# Altium integrated library National Semiconductor Audio.IntLib: 683 symbols (part 13 of 18)
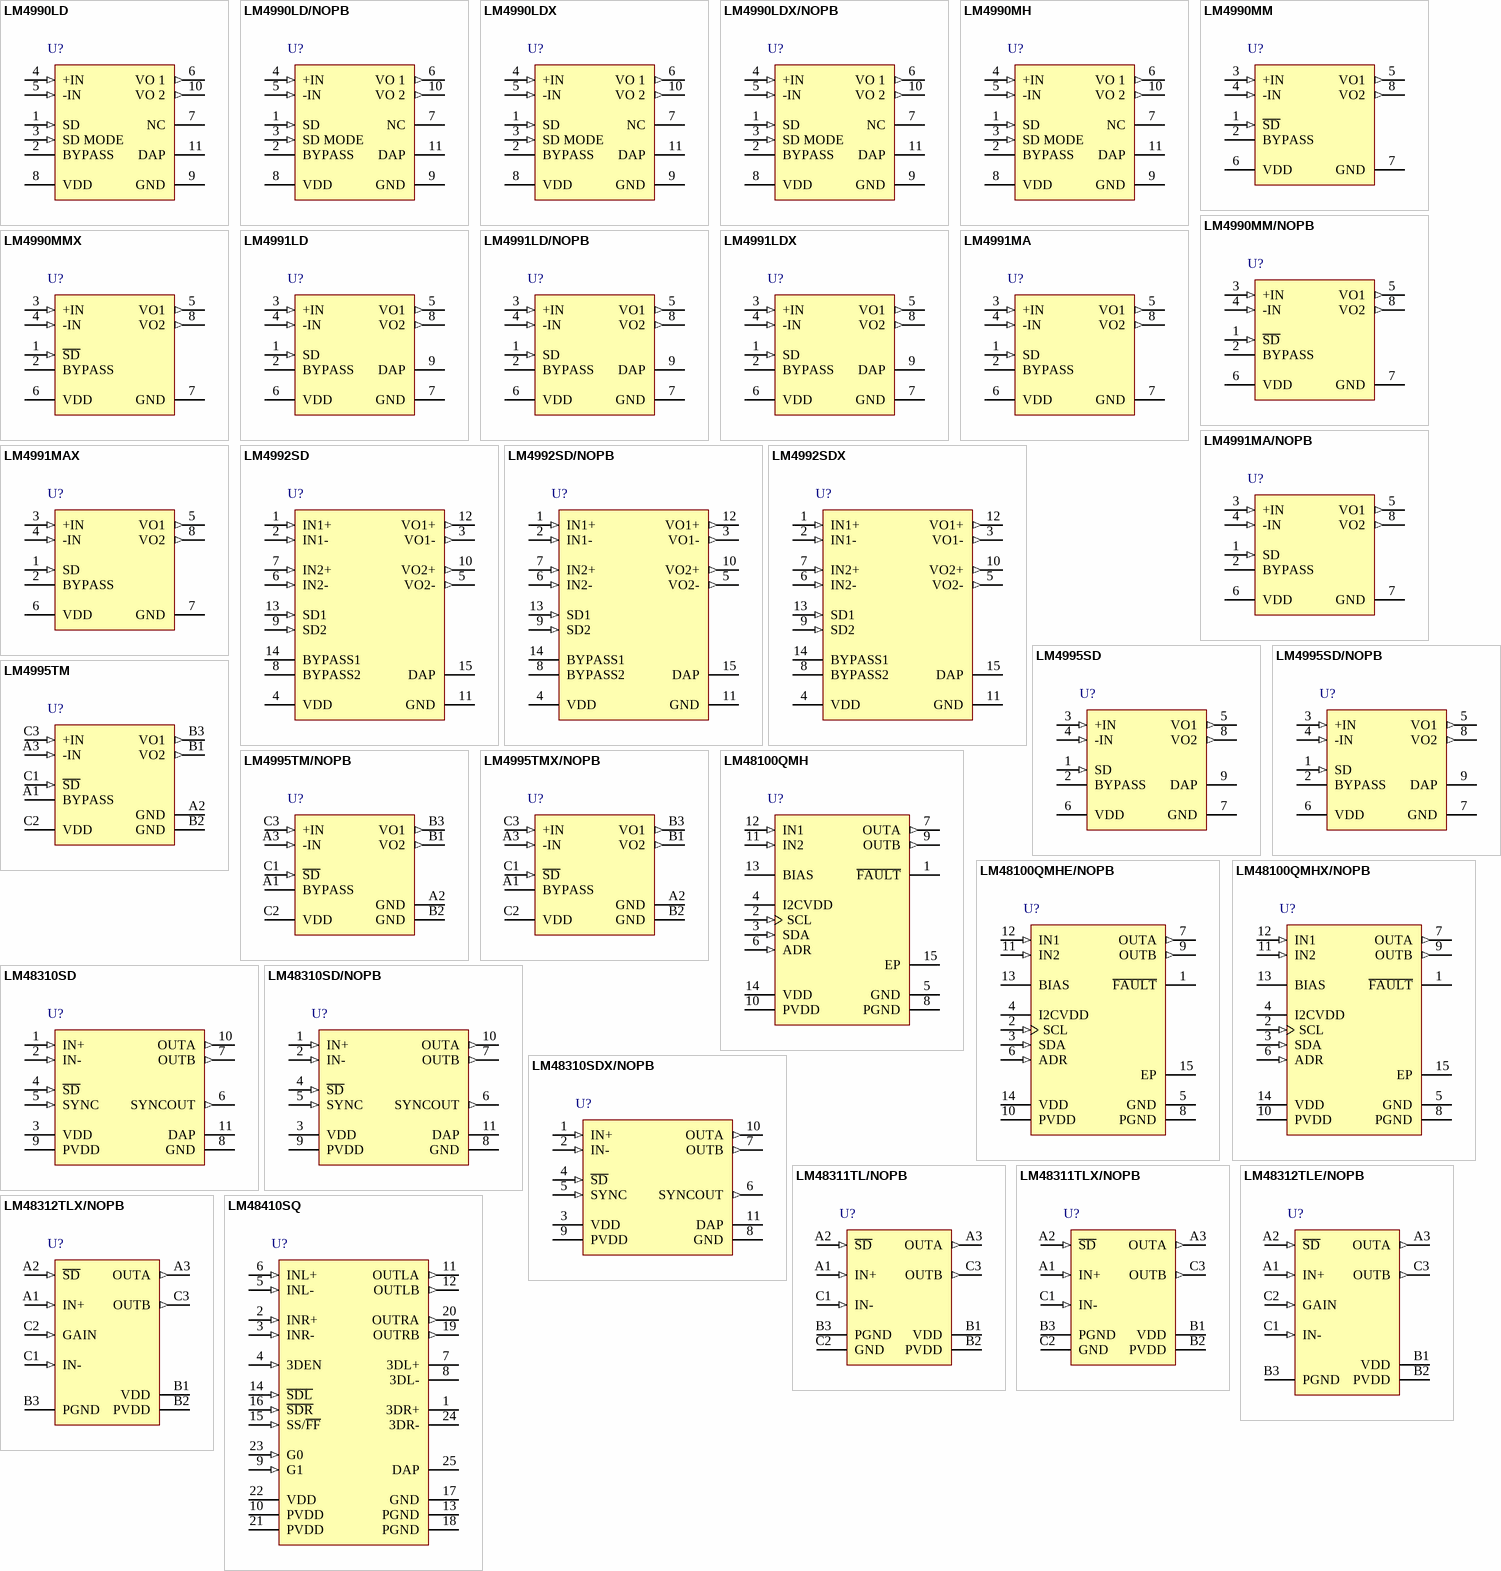
[diagram p38: symbols LM4990LD to LM48410SQ]

## LM48311TLX/NOPB
designator U?
Ultra-Low EMI, Filterless, 2.6W, Mono, Class D Audio Power Amplifier with E2S, 9-pin Micro SMD, Pb-Free; PartNumber: LM48311TLX/NOPB; Manufacturer: National Semiconductor; PackageTopMarking: XVG*I N1; PowerWise: Y; CompType: Audio IC; DatasheetVersion: Jun-2009; PackageVersion: revC, Jan-2004; PackageReference: TLA09BCA; PackageDescription: Thin Micro SMD, 9 Bump (Large), 0.5mm Pitch; RoHS: Y; PinCount: 9; High-Reliability: Y; Code_JEDEC: MO-211-DD; ComponentLink1Description: Manufacturer URL; ComponentLink1URL: http://www.national.com/; ComponentLink2Description: LM48311 Datasheet; ComponentLink2URL: http://www.national.com/ds/LM/LM48311.pdf; ComponentLink3Description: LM48311 Web Page; ComponentLink3URL: http://www.national.com/pf/LM/LM48311.html; ComponentLink4Description: TLA09BCA Package Page; ComponentLink4URL: http://www.national.com/packaging/folders/tla09bca.html
footprint TLA09BCA (Micro SMD, 9-Leads, Body 1.57x1.54mm, Pitch 0.5mm, NSC Recommended)
pins: A1 IN+ (in), A2 ~{SD} (in), A3 OUTA (out), B1 VDD (power), B2 PVDD (power), B3 PGND (power), C1 IN- (in), C2 GND (power), C3 OUTB (out)

## LM48312TLE/NOPB
designator U?
2.6W, Ultra-Low EMI, Filterless, Mono Class D Audio Power Amplifier with E2S, 9-pin Micro SMD, Pb-Free; PartNumber: LM48312TLE/NOPB; Manufacturer: National Semiconductor; PackageTopMarking: XVG*I N4; PowerWise: N; CompType: Audio IC; High-Reliability: Y; DatasheetVersion: Jan-2010; PackageVersion: revC, Jan-2004; PackageReference: TLA09BCA; PackageDescription: Thin Micro SMD, 9 Bump (Large), 0.5mm Pitch; RoHS: Y; PinCount: 9; Code_JEDEC: MO-211-DD; ComponentLink1Description: Manufacturer URL; ComponentLink1URL: http://www.national.com/; ComponentLink2Description: LM48312 Datasheet; ComponentLink2URL: http://www.national.com/ds/LM/LM48312.pdf; ComponentLink3Description: LM48312 Web Page; ComponentLink3URL: http://www.national.com/pf/LM/LM48312.html; ComponentLink4Description: TLA09BCA Package Page; ComponentLink4URL: http://www.national.com/packaging/folders/tla09bca.html
footprint TLA09BCA (Micro SMD, 9-Leads, Body 1.57x1.54mm, Pitch 0.5mm, NSC Recommended)
pins: A1 IN+ (in), A2 ~{SD} (in), A3 OUTA (out), B1 VDD (power), B2 PVDD (power), B3 PGND (power), C1 IN- (in), C2 GAIN (in), C3 OUTB (out)

## LM48312TLX/NOPB
designator U?
2.6W, Ultra-Low EMI, Filterless, Mono Class D Audio Power Amplifier with E2S, 9-pin Micro SMD, Pb-Free; PartNumber: LM48312TLX/NOPB; Manufacturer: National Semiconductor; PackageTopMarking: XVG*I N4; PowerWise: N; CompType: Audio IC; High-Reliability: Y; DatasheetVersion: Jan-2010; PackageVersion: revC, Jan-2004; PackageReference: TLA09BCA; PackageDescription: Thin Micro SMD, 9 Bump (Large), 0.5mm Pitch; RoHS: Y; PinCount: 9; Code_JEDEC: MO-211-DD; ComponentLink1Description: Manufacturer URL; ComponentLink1URL: http://www.national.com/; ComponentLink2Description: LM48312 Datasheet; ComponentLink2URL: http://www.national.com/ds/LM/LM48312.pdf; ComponentLink3Description: LM48312 Web Page; ComponentLink3URL: http://www.national.com/pf/LM/LM48312.html; ComponentLink4Description: TLA09BCA Package Page; ComponentLink4URL: http://www.national.com/packaging/folders/tla09bca.html
footprint TLA09BCA (Micro SMD, 9-Leads, Body 1.57x1.54mm, Pitch 0.5mm, NSC Recommended)
pins: A1 IN+ (in), A2 ~{SD} (in), A3 OUTA (out), B1 VDD (power), B2 PVDD (power), B3 PGND (power), C1 IN- (in), C2 GAIN (in), C3 OUTB (out)

## LM48410SQ
designator U?
Low EMI, Filterless, 2.3W Stereo Class D Audio Power Amplifier with National 3D Enhancement, 25-pin LLP; PartNumber: LM48410SQ; Manufacturer: National Semiconductor; PackageTopMarking: NS*UZXYTT*L48410; PowerWise: N; CompType: Audio IC; High-Reliability: Y; DatasheetVersion: Jul-2008; PackageVersion: revB, Aug-2003; PackageReference: SQA24A; PackageDescription: LLP, Plastic, Quad, 4 x 4 x 0.8mm Body, 24 Lead, 0.5mm Pitch, No Pullback; RoHS: Y; PinCount: 24; Code_JEDEC: MO-220-WGGD-6; ComponentLink1Description: Manufacturer URL; ComponentLink1URL: http://www.national.com/; ComponentLink2Description: LM48410 Datasheet; ComponentLink2URL: http://www.national.com/ds/LM/LM48410.pdf; ComponentLink3Description: LM48410 Web Page; ComponentLink3URL: http://www.national.com/pf/LM/LM48410.html; ComponentLink4Description: SQA24A Package Page; ComponentLink4URL: http://www.national.com/packaging/folders/sqa24a.html
footprint SQA24A (QFN, 24-Leads, Body 4x4mm, Pitch 0.5mm, Thermal Pad 2.7x2.7mm, NSC Recommended)
pins: 1 3DR+, 2 INR+ (in), 3 INR- (in), 4 3DEN (in), 5 INL- (in), 6 INL+ (in), 7 3DL+, 8 3DL-, 9 G1 (in), 10 PVDD (power), 11 OUTLA (out), 12 OUTLB (out), 13 PGND (power), 14 ~{SDL} (in), 15 SS/~{FF} (in), 16 ~{SDR} (in), 17 GND (power), 18 PGND (power), 19 OUTRB (out), 20 OUTRA (out), 21 PVDD (power), 22 VDD (power), 23 G0 (in), 24 3DR-, 25 DAP (power)

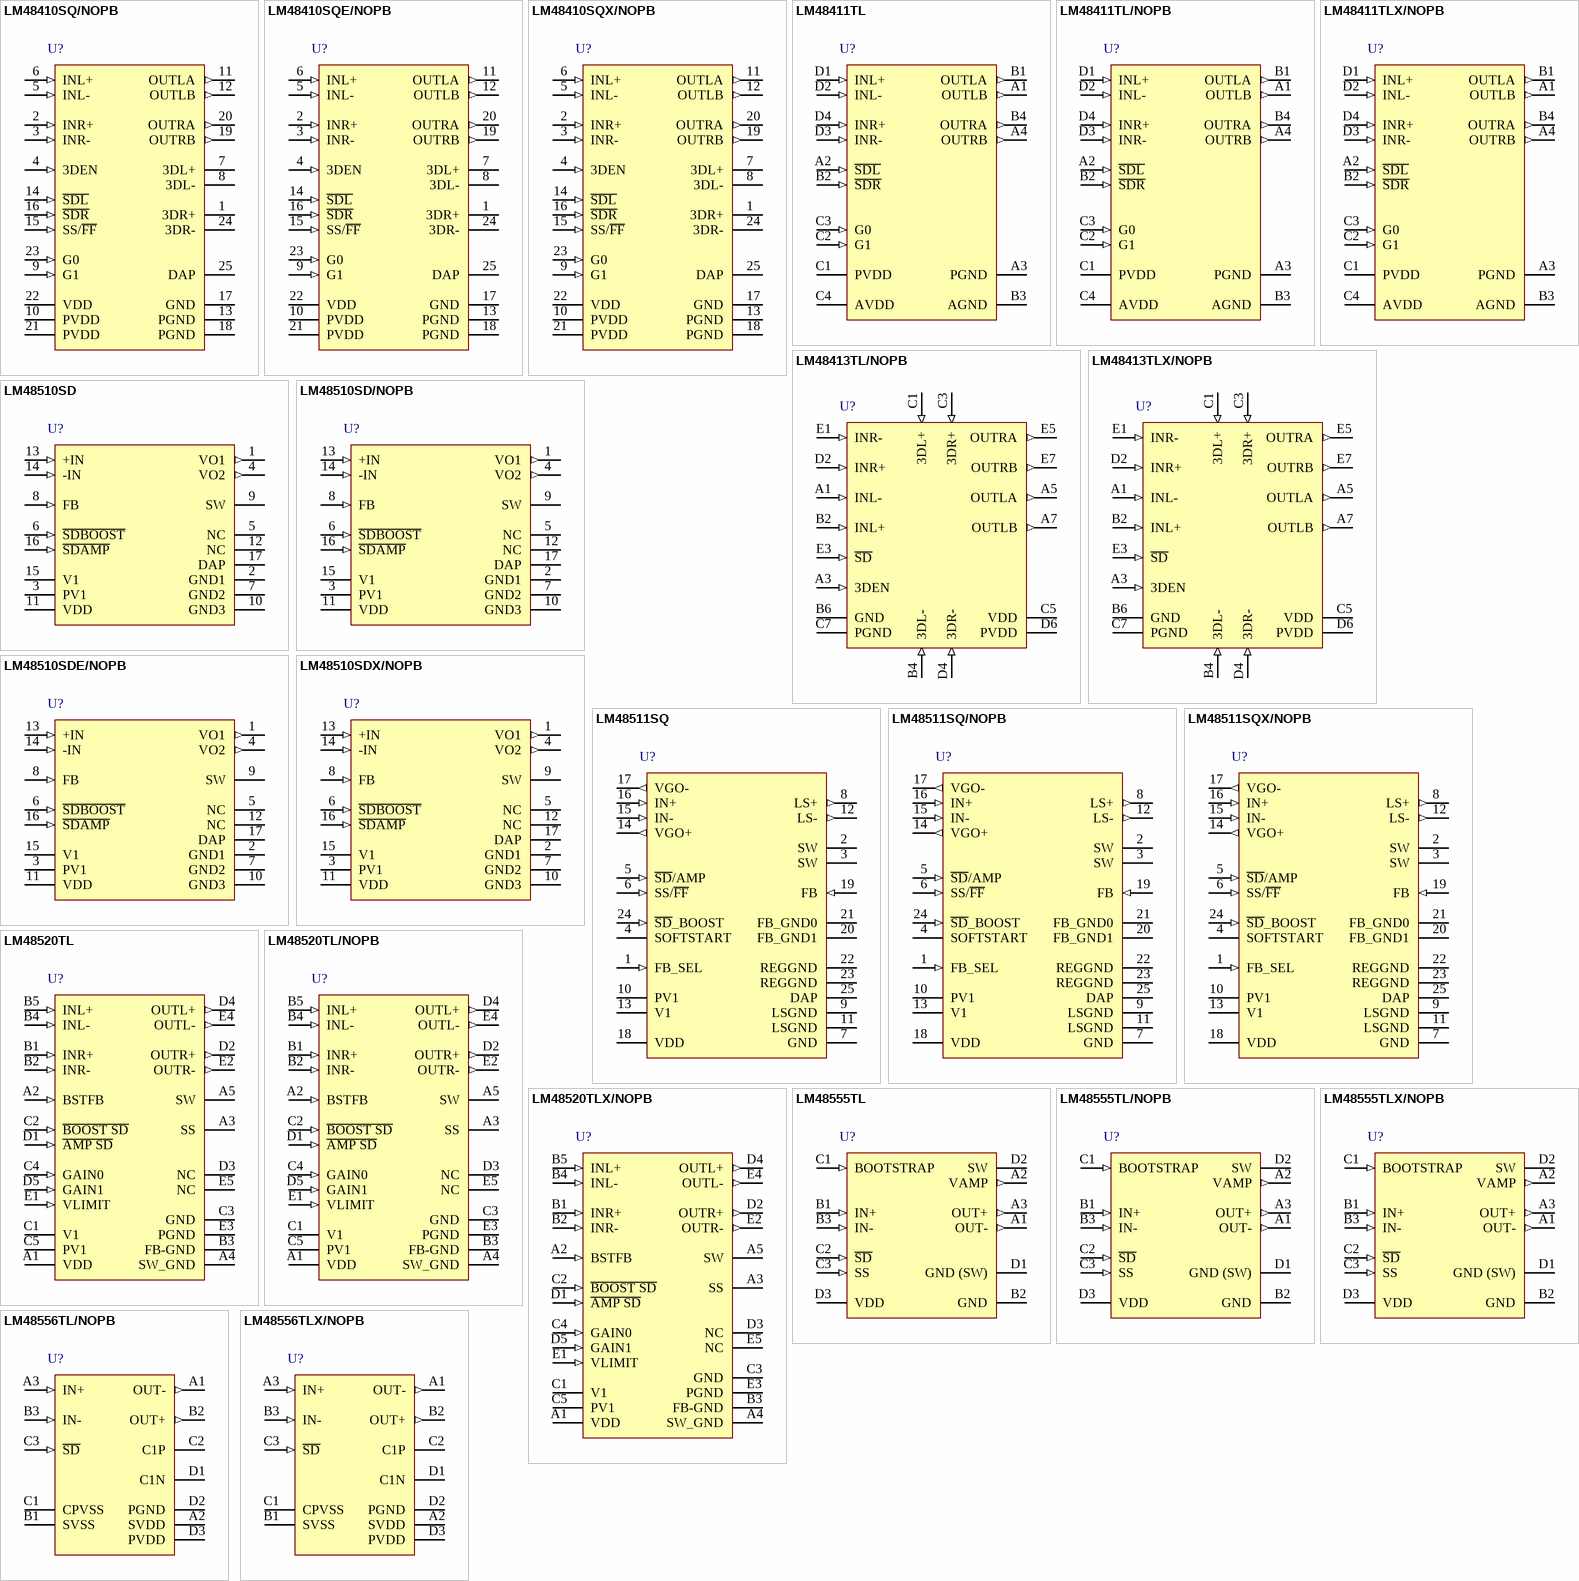
[diagram p18: symbols LM48410SQ/NOPB to LM48556TLX/NOPB]

## LM48410SQ/NOPB
designator U?
Low EMI, Filterless, 2.3W Stereo Class D Audio Power Amplifier with National 3D Enhancement, 24-pin LLP, Pb-Free; PartNumber: LM48410SQ/NOPB; Manufacturer: National Semiconductor; PackageTopMarking: NS*UZXYTT*L48410; PowerWise: N; CompType: Audio IC; High-Reliability: Y; DatasheetVersion: Jul-2008; PackageVersion: revB, Aug-2003; PackageReference: SQA24A; PackageDescription: LLP, Plastic, Quad, 4 x 4 x 0.8mm Body, 24 Lead, 0.5mm Pitch, No Pullback; RoHS: Y; PinCount: 24; Code_JEDEC: MO-220-WGGD-6; ComponentLink1Description: Manufacturer URL; ComponentLink1URL: http://www.national.com/; ComponentLink2Description: LM48410 Datasheet; ComponentLink2URL: http://www.national.com/ds/LM/LM48410.pdf; ComponentLink3Description: LM48410 Web Page; ComponentLink3URL: http://www.national.com/pf/LM/LM48410.html; ComponentLink4Description: SQA24A Package Page; ComponentLink4URL: http://www.national.com/packaging/folders/sqa24a.html
footprint SQA24A (QFN, 24-Leads, Body 4x4mm, Pitch 0.5mm, Thermal Pad 2.7x2.7mm, NSC Recommended)
pins: 1 3DR+, 2 INR+ (in), 3 INR- (in), 4 3DEN (in), 5 INL- (in), 6 INL+ (in), 7 3DL+, 8 3DL-, 9 G1 (in), 10 PVDD (power), 11 OUTLA (out), 12 OUTLB (out), 13 PGND (power), 14 ~{SDL} (in), 15 SS/~{FF} (in), 16 ~{SDR} (in), 17 GND (power), 18 PGND (power), 19 OUTRB (out), 20 OUTRA (out), 21 PVDD (power), 22 VDD (power), 23 G0 (in), 24 3DR-, 25 DAP (power)

## LM48410SQE/NOPB
designator U?
Low EMI, Filterless, 2.3W Stereo Class D Audio Power Amplifier with National 3D Enhancement, 24-pin LLP, Pb-Free; PartNumber: LM48410SQE/NOPB; Manufacturer: National Semiconductor; PackageTopMarking: NS*UZXYTT*L48410; PowerWise: N; CompType: Audio IC; High-Reliability: Y; DatasheetVersion: Jul-2008; PackageVersion: revB, Aug-2003; PackageReference: SQA24A; PackageDescription: LLP, Plastic, Quad, 4 x 4 x 0.8mm Body, 24 Lead, 0.5mm Pitch, No Pullback; RoHS: Y; PinCount: 24; Code_JEDEC: MO-220-WGGD-6; ComponentLink1Description: Manufacturer URL; ComponentLink1URL: http://www.national.com/; ComponentLink2Description: LM48410 Datasheet; ComponentLink2URL: http://www.national.com/ds/LM/LM48410.pdf; ComponentLink3Description: LM48410 Web Page; ComponentLink3URL: http://www.national.com/pf/LM/LM48410.html; ComponentLink4Description: SQA24A Package Page; ComponentLink4URL: http://www.national.com/packaging/folders/sqa24a.html
footprint SQA24A (QFN, 24-Leads, Body 4x4mm, Pitch 0.5mm, Thermal Pad 2.7x2.7mm, NSC Recommended)
pins: 1 3DR+, 2 INR+ (in), 3 INR- (in), 4 3DEN (in), 5 INL- (in), 6 INL+ (in), 7 3DL+, 8 3DL-, 9 G1 (in), 10 PVDD (power), 11 OUTLA (out), 12 OUTLB (out), 13 PGND (power), 14 ~{SDL} (in), 15 SS/~{FF} (in), 16 ~{SDR} (in), 17 GND (power), 18 PGND (power), 19 OUTRB (out), 20 OUTRA (out), 21 PVDD (power), 22 VDD (power), 23 G0 (in), 24 3DR-, 25 DAP (power)

## LM48410SQX/NOPB
designator U?
Low EMI, Filterless, 2.3W Stereo Class D Audio Power Amplifier with National 3D Enhancement, 24-pin LLP, Pb-Free; PartNumber: LM48410SQX/NOPB; Manufacturer: National Semiconductor; PackageTopMarking: NS*UZXYTT*L48410; PowerWise: N; CompType: Audio IC; High-Reliability: Y; DatasheetVersion: Jul-2008; PackageVersion: revB, Aug-2003; PackageReference: SQA24A; PackageDescription: LLP, Plastic, Quad, 4 x 4 x 0.8mm Body, 24 Lead, 0.5mm Pitch, No Pullback; RoHS: Y; PinCount: 24; Code_JEDEC: MO-220-WGGD-6; ComponentLink1Description: Manufacturer URL; ComponentLink1URL: http://www.national.com/; ComponentLink2Description: LM48410 Datasheet; ComponentLink2URL: http://www.national.com/ds/LM/LM48410.pdf; ComponentLink3Description: LM48410 Web Page; ComponentLink3URL: http://www.national.com/pf/LM/LM48410.html; ComponentLink4Description: SQA24A Package Page; ComponentLink4URL: http://www.national.com/packaging/folders/sqa24a.html
footprint SQA24A (QFN, 24-Leads, Body 4x4mm, Pitch 0.5mm, Thermal Pad 2.7x2.7mm, NSC Recommended)
pins: 1 3DR+, 2 INR+ (in), 3 INR- (in), 4 3DEN (in), 5 INL- (in), 6 INL+ (in), 7 3DL+, 8 3DL-, 9 G1 (in), 10 PVDD (power), 11 OUTLA (out), 12 OUTLB (out), 13 PGND (power), 14 ~{SDL} (in), 15 SS/~{FF} (in), 16 ~{SDR} (in), 17 GND (power), 18 PGND (power), 19 OUTRB (out), 20 OUTRA (out), 21 PVDD (power), 22 VDD (power), 23 G0 (in), 24 3DR-, 25 DAP (power)

## LM48411TL
designator U?
Ultra-Low EMI, Filterless, 2.5W, Stereo, Class D Audio Power Amplifier with E 2 S, 16-pin Micro SMD; PartNumber: LM48411TL; Manufacturer: National Semiconductor; PackageTopMarking: XYTT*I GJ2; PowerWise: Y; CompType: Audio IC; DatasheetVersion: Jul-2008; PackageVersion: revC, Jan-2004; PackageReference: TLA16ACA; PackageDescription: Thin Micro SMD, 16 Bump (Large), 0.5mm Pitch; RoHS: Y; PinCount: 16; High-Reliability: Y; Code_JEDEC: MO-211-DF; ComponentLink1Description: Manufacturer URL; ComponentLink1URL: http://www.national.com/; ComponentLink2Description: LM48411 Datasheet; ComponentLink2URL: http://www.national.com/ds/LM/LM48411.pdf; ComponentLink3Description: LM48411 Web Page; ComponentLink3URL: http://www.national.com/pf/LM/LM48411.html; ComponentLink4Description: TLA16ACA Package Page; ComponentLink4URL: http://www.national.com/packaging/folders/tla16aca.html
footprint TLA16ACA (Micro SMD, 16-Leads, Body 2.05x2.0mm, Pitch 0.5mm, NSC Recommended)
pins: A1 OUTLB (out), A2 ~{SDL} (in), A3 PGND (power), A4 OUTRB (out), B1 OUTLA (out), B2 ~{SDR} (in), B3 AGND (power), B4 OUTRA (out), C1 PVDD (power), C2 G1 (in), C3 G0 (in), C4 AVDD (power), D1 INL+ (in), D2 INL- (in), D3 INR- (in), D4 INR+ (in)

## LM48411TL/NOPB
designator U?
Ultra-Low EMI, Filterless, 2.5W, Stereo, Class D Audio Power Amplifier with E 2 S, 16-pin Micro SMD, Pb-Free; PartNumber: LM48411TL/NOPB; Manufacturer: National Semiconductor; PackageTopMarking: XYTT*I GJ2; PowerWise: Y; CompType: Audio IC; DatasheetVersion: Jul-2008; PackageVersion: revC, Jan-2004; PackageReference: TLA16ACA; PackageDescription: Thin Micro SMD, 16 Bump (Large), 0.5mm Pitch; RoHS: Y; PinCount: 16; High-Reliability: Y; Code_JEDEC: MO-211-DF; ComponentLink1Description: Manufacturer URL; ComponentLink1URL: http://www.national.com/; ComponentLink2Description: LM48411 Datasheet; ComponentLink2URL: http://www.national.com/ds/LM/LM48411.pdf; ComponentLink3Description: LM48411 Web Page; ComponentLink3URL: http://www.national.com/pf/LM/LM48411.html; ComponentLink4Description: TLA16ACA Package Page; ComponentLink4URL: http://www.national.com/packaging/folders/tla16aca.html
footprint TLA16ACA (Micro SMD, 16-Leads, Body 2.05x2.0mm, Pitch 0.5mm, NSC Recommended)
pins: A1 OUTLB (out), A2 ~{SDL} (in), A3 PGND (power), A4 OUTRB (out), B1 OUTLA (out), B2 ~{SDR} (in), B3 AGND (power), B4 OUTRA (out), C1 PVDD (power), C2 G1 (in), C3 G0 (in), C4 AVDD (power), D1 INL+ (in), D2 INL- (in), D3 INR- (in), D4 INR+ (in)

## LM48411TLX/NOPB
designator U?
Ultra-Low EMI, Filterless, 2.5W, Stereo, Class D Audio Power Amplifier with E 2 S, 16-pin Micro SMD, Pb-Free; PartNumber: LM48411TLX/NOPB; Manufacturer: National Semiconductor; PackageTopMarking: XYTT*I GJ2; PowerWise: Y; CompType: Audio IC; DatasheetVersion: Jul-2008; PackageVersion: revC, Jan-2004; PackageReference: TLA16ACA; PackageDescription: Thin Micro SMD, 16 Bump (Large), 0.5mm Pitch; RoHS: Y; PinCount: 16; High-Reliability: Y; Code_JEDEC: MO-211-DF; ComponentLink1Description: Manufacturer URL; ComponentLink1URL: http://www.national.com/; ComponentLink2Description: LM48411 Datasheet; ComponentLink2URL: http://www.national.com/ds/LM/LM48411.pdf; ComponentLink3Description: LM48411 Web Page; ComponentLink3URL: http://www.national.com/pf/LM/LM48411.html; ComponentLink4Description: TLA16ACA Package Page; ComponentLink4URL: http://www.national.com/packaging/folders/tla16aca.html
footprint TLA16ACA (Micro SMD, 16-Leads, Body 2.05x2.0mm, Pitch 0.5mm, NSC Recommended)
pins: A1 OUTLB (out), A2 ~{SDL} (in), A3 PGND (power), A4 OUTRB (out), B1 OUTLA (out), B2 ~{SDR} (in), B3 AGND (power), B4 OUTRA (out), C1 PVDD (power), C2 G1 (in), C3 G0 (in), C4 AVDD (power), D1 INL+ (in), D2 INL- (in), D3 INR- (in), D4 INR+ (in)

## LM48413TL/NOPB
designator U?
Ultra Low EMI, Filterless, 1.2W Stereo Class D Audio Power Amplifier with E2S and National 3D Enhancement, 18-pin Micro SMD, Pb-Free; PartNumber: LM48413TL/NOPB; Manufacturer: National Semiconductor; PackageTopMarking: XYTT*I GL2; PowerWise: N; CompType: Audio IC; High-Reliability: Y; DatasheetVersion: Jan-2009; PackageVersion: revD, Jan-2005; PackageReference: TLA18CBA; PackageDescription: Thin Micro SMD, 18 Bump (Large), 0.5mm Pitch; RoHS: Y; PinCount: 18; ComponentLink1Description: Manufacturer URL; ComponentLink1URL: http://www.national.com/; ComponentLink2Description: LM48413 Datasheet; ComponentLink2URL: http://www.national.com/ds/LM/LM48413.pdf; ComponentLink3Description: LM48413 Web Page; ComponentLink3URL: http://www.national.com/pf/LM/LM48413.html; ComponentLink4Description: TLA18CBA Package Page; ComponentLink4URL: http://www.national.com/packaging/folders/tla18cba.html
footprint TLA18CBA (Micro SMD, 18-Leads, Body 2.25x2.05mm, Pitch 0.5mm, NSC Recommended)
pins: A1 INL- (in), A3 3DEN (in), A5 OUTLA (out), A7 OUTLB (out), B2 INL+ (in), B4 3DL- (in), B6 GND (power), C1 3DL+ (in), C3 3DR+ (in), C5 VDD (power), C7 PGND (power), D2 INR+ (in), D4 3DR- (in), D6 PVDD (power), E1 INR- (in), E3 ~{SD} (in), E5 OUTRA (out), E7 OUTRB (out)

## LM48413TLX/NOPB
designator U?
Ultra Low EMI, Filterless, 1.2W Stereo Class D Audio Power Amplifier with E2S and National 3D Enhancement, 18-pin Micro SMD, Pb-Free; PartNumber: LM48413TLX/NOPB; Manufacturer: National Semiconductor; PackageTopMarking: XYTT*I GL2; PowerWise: N; CompType: Audio IC; High-Reliability: Y; DatasheetVersion: Jan-2009; PackageVersion: revD, Jan-2005; PackageReference: TLA18CBA; PackageDescription: Thin Micro SMD, 18 Bump (Large), 0.5mm Pitch; RoHS: Y; PinCount: 18; ComponentLink1Description: Manufacturer URL; ComponentLink1URL: http://www.national.com/; ComponentLink2Description: LM48413 Datasheet; ComponentLink2URL: http://www.national.com/ds/LM/LM48413.pdf; ComponentLink3Description: LM48413 Web Page; ComponentLink3URL: http://www.national.com/pf/LM/LM48413.html; ComponentLink4Description: TLA18CBA Package Page; ComponentLink4URL: http://www.national.com/packaging/folders/tla18cba.html
footprint TLA18CBA (Micro SMD, 18-Leads, Body 2.25x2.05mm, Pitch 0.5mm, NSC Recommended)
pins: A1 INL- (in), A3 3DEN (in), A5 OUTLA (out), A7 OUTLB (out), B2 INL+ (in), B4 3DL- (in), B6 GND (power), C1 3DL+ (in), C3 3DR+ (in), C5 VDD (power), C7 PGND (power), D2 INR+ (in), D4 3DR- (in), D6 PVDD (power), E1 INR- (in), E3 ~{SD} (in), E5 OUTRA (out), E7 OUTRB (out)

## LM48510SD
designator U?
Boosted Class D Audio Power Amplifier, 17-pin LLP; PartNumber: LM48510SD; Manufacturer: National Semiconductor; PackageTopMarking: NS*UZXYTT*L48510; PowerWise: N; CompType: Audio IC; High-Reliability: Y; DatasheetVersion: Oct-2007; PackageVersion: revA, Dec-2004; PackageReference: SDA16B; PackageDescription: LLP, Plastic, Dual, 5 x 4 x 0.8mm, 16 Lead, 0.5mm Pitch, No Pullback; RoHS: N; PinCount: 16; ComponentLink1Description: Manufacturer URL; ComponentLink1URL: http://www.national.com/; ComponentLink2Description: LM48510 Datasheet; ComponentLink2URL: http://www.national.com/ds/LM/LM48510.pdf; ComponentLink3Description: LM48510 Web Page; ComponentLink3URL: http://www.national.com/pf/LM/LM48510.html; ComponentLink4Description: SDA16B Package Page; ComponentLink4URL: http://www.national.com/packaging/folders/sda16b.html
footprint SDA16B (SON, 16-Leads, Body 5x4mm, Pitch 0.5mm, NSC Recommended)
pins: 1 VO1 (out), 2 GND1 (power), 3 PV1 (power), 4 VO2 (out), 5 NC, 6 ~{SDBOOST} (in), 7 GND2 (power), 8 FB (in), 9 SW, 10 GND3 (power), 11 VDD (power), 12 NC, 13 +IN (in), 14 -IN (in), 15 V1 (power), 16 ~{SDAMP} (in), 17 DAP (power)

## LM48510SD/NOPB
designator U?
Boosted Class D Audio Power Amplifier, 16-pin LLP, Pb-Free; PartNumber: LM48510SD/NOPB; Manufacturer: National Semiconductor; PackageTopMarking: NS*UZXYTT*L48510; PowerWise: N; CompType: Audio IC; High-Reliability: Y; DatasheetVersion: Oct-2007; PackageVersion: revA, Dec-2004; PackageReference: SDA16B; PackageDescription: LLP, Plastic, Dual, 5 x 4 x 0.8mm, 16 Lead, 0.5mm Pitch, No Pullback; RoHS: Y; PinCount: 16; ComponentLink1Description: Manufacturer URL; ComponentLink1URL: http://www.national.com/; ComponentLink2Description: LM48510 Datasheet; ComponentLink2URL: http://www.national.com/ds/LM/LM48510.pdf; ComponentLink3Description: LM48510 Web Page; ComponentLink3URL: http://www.national.com/pf/LM/LM48510.html; ComponentLink4Description: SDA16B Package Page; ComponentLink4URL: http://www.national.com/packaging/folders/sda16b.html
footprint SDA16B (SON, 16-Leads, Body 5x4mm, Pitch 0.5mm, NSC Recommended)
pins: 1 VO1 (out), 2 GND1 (power), 3 PV1 (power), 4 VO2 (out), 5 NC, 6 ~{SDBOOST} (in), 7 GND2 (power), 8 FB (in), 9 SW, 10 GND3 (power), 11 VDD (power), 12 NC, 13 +IN (in), 14 -IN (in), 15 V1 (power), 16 ~{SDAMP} (in), 17 DAP (power)

## LM48510SDE/NOPB
designator U?
Boosted Class D Audio Power Amplifier, 16-pin LLP, Pb-Free; PartNumber: LM48510SDE/NOPB; Manufacturer: National Semiconductor; PackageTopMarking: NS*UZXYTT*L48510; PowerWise: N; CompType: Audio IC; High-Reliability: Y; DatasheetVersion: Oct-2007; PackageVersion: revA, Dec-2004; PackageReference: SDA16B; PackageDescription: LLP, Plastic, Dual, 5 x 4 x 0.8mm, 16 Lead, 0.5mm Pitch, No Pullback; RoHS: Y; PinCount: 16; ComponentLink1Description: Manufacturer URL; ComponentLink1URL: http://www.national.com/; ComponentLink2Description: LM48510 Datasheet; ComponentLink2URL: http://www.national.com/ds/LM/LM48510.pdf; ComponentLink3Description: LM48510 Web Page; ComponentLink3URL: http://www.national.com/pf/LM/LM48510.html; ComponentLink4Description: SDA16B Package Page; ComponentLink4URL: http://www.national.com/packaging/folders/sda16b.html
footprint SDA16B (SON, 16-Leads, Body 5x4mm, Pitch 0.5mm, NSC Recommended)
pins: 1 VO1 (out), 2 GND1 (power), 3 PV1 (power), 4 VO2 (out), 5 NC, 6 ~{SDBOOST} (in), 7 GND2 (power), 8 FB (in), 9 SW, 10 GND3 (power), 11 VDD (power), 12 NC, 13 +IN (in), 14 -IN (in), 15 V1 (power), 16 ~{SDAMP} (in), 17 DAP (power)

## LM48510SDX/NOPB
designator U?
Boosted Class D Audio Power Amplifier, 16-pin LLP, Pb-Free; PartNumber: LM48510SDX/NOPB; Manufacturer: National Semiconductor; PackageTopMarking: NS*UZXYTT*L48510; PowerWise: Y; CompType: Audio IC; DatasheetVersion: Oct-2007; PackageVersion: revA, Dec-2004; PackageReference: SDA16B; PackageDescription: LLP, Plastic, Dual, 5 x 4 x 0.8mm, 16 Lead, 0.5mm Pitch, No Pullback; RoHS: Y; PinCount: 16; High-Reliability: Y; ComponentLink1Description: Manufacturer URL; ComponentLink1URL: http://www.national.com/; ComponentLink2Description: LM48510 Datasheet; ComponentLink2URL: http://www.national.com/ds/LM/LM48510.pdf; ComponentLink3Description: LM48510 Web Page; ComponentLink3URL: http://www.national.com/pf/LM/LM48510.html; ComponentLink4Description: SDA16B Package Page; ComponentLink4URL: http://www.national.com/packaging/folders/sda16b.html
footprint SDA16B (SON, 16-Leads, Body 5x4mm, Pitch 0.5mm, NSC Recommended)
pins: 1 VO1 (out), 2 GND1 (power), 3 PV1 (power), 4 VO2 (out), 5 NC, 6 ~{SDBOOST} (in), 7 GND2 (power), 8 FB (in), 9 SW, 10 GND3 (power), 11 VDD (power), 12 NC, 13 +IN (in), 14 -IN (in), 15 V1 (power), 16 ~{SDAMP} (in), 17 DAP (power)

## LM48511SQ
designator U?
3W, Ultra-Low EMI, Filterless, Mono, Class D Audio Power Amplifier with Spread Spectrum, 25-pin LLP; PartNumber: LM48511SQ; Manufacturer: National Semiconductor; PackageTopMarking: NS*UZXYTT*48511SQ; PowerWise: N; CompType: Audio IC; High-Reliability: Y; DatasheetVersion: Feb-2008; PackageVersion: revA, Oct-2003; PackageReference: SQA24B; PackageDescription: LLP, Plastic, Quad, 5 x 4 x 0.8mm Body, 24 Lead, 0.5mm Pitch, No Pullback; RoHS: Y; PinCount: 24; Code_JEDEC: MO-220-WGHD-1; ComponentLink1Description: Manufacturer URL; ComponentLink1URL: http://www.national.com/; ComponentLink2Description: LM48511 Datasheet; ComponentLink2URL: http://www.national.com/ds/LM/LM48511.pdf; ComponentLink3Description: LM48511 Web Page; ComponentLink3URL: http://www.national.com/pf/LM/LM48511.html; ComponentLink4Description: SQA24B Package Page; ComponentLink4URL: http://www.national.com/packaging/folders/sqa24b.html
footprint SQA24B (QFN, 24-Leads, Body 5x4mm, Pitch 0.5mm, NSC Recommended)
pins: 1 FB_SEL (in), 2 SW (oc), 3 SW (oc), 4 SOFTSTART, 5 ~{SD}/AMP (in), 6 SS/~{FF} (in), 7 GND (power), 8 LS+ (out), 9 LSGND (power), 10 PV1 (power), 11 LSGND (power), 12 LS- (out), 13 V1 (power), 14 VGO+ (out), 15 IN- (in), 16 IN+ (in), 17 VGO- (out), 18 VDD (power), 19 FB (in), 20 FB_GND1 (power), 21 FB_GND0 (power), 22 REGGND (power), 23 REGGND (power), 24 ~{SD}_BOOST (in), 25 DAP (power)

## LM48511SQ/NOPB
designator U?
3W, Ultra-Low EMI, Filterless, Mono, Class D Audio Power Amplifier with Spread Spectrum, 24-pin LLP, Pb-Free; PartNumber: LM48511SQ/NOPB; Manufacturer: National Semiconductor; PackageTopMarking: NS*UZXYTT*48511SQ; PowerWise: N; CompType: Audio IC; High-Reliability: Y; DatasheetVersion: Feb-2008; PackageVersion: revA, Oct-2003; PackageReference: SQA24B; PackageDescription: LLP, Plastic, Quad, 5 x 4 x 0.8mm Body, 24 Lead, 0.5mm Pitch, No Pullback; RoHS: Y; PinCount: 24; Code_JEDEC: MO-220-WGHD-1; ComponentLink1Description: Manufacturer URL; ComponentLink1URL: http://www.national.com/; ComponentLink2Description: LM48511 Datasheet; ComponentLink2URL: http://www.national.com/ds/LM/LM48511.pdf; ComponentLink3Description: LM48511 Web Page; ComponentLink3URL: http://www.national.com/pf/LM/LM48511.html; ComponentLink4Description: SQA24B Package Page; ComponentLink4URL: http://www.national.com/packaging/folders/sqa24b.html
footprint SQA24B (QFN, 24-Leads, Body 5x4mm, Pitch 0.5mm, NSC Recommended)
pins: 1 FB_SEL (in), 2 SW (oc), 3 SW (oc), 4 SOFTSTART, 5 ~{SD}/AMP (in), 6 SS/~{FF} (in), 7 GND (power), 8 LS+ (out), 9 LSGND (power), 10 PV1 (power), 11 LSGND (power), 12 LS- (out), 13 V1 (power), 14 VGO+ (out), 15 IN- (in), 16 IN+ (in), 17 VGO- (out), 18 VDD (power), 19 FB (in), 20 FB_GND1 (power), 21 FB_GND0 (power), 22 REGGND (power), 23 REGGND (power), 24 ~{SD}_BOOST (in), 25 DAP (power)

## LM48511SQX/NOPB
designator U?
3W, Ultra-Low EMI, Filterless, Mono, Class D Audio Power Amplifier with Spread Spectrum, 24-pin LLP, Pb-Free; PartNumber: LM48511SQX/NOPB; Manufacturer: National Semiconductor; PackageTopMarking: NS*UZXYTT*48511SQ; PowerWise: N; CompType: Audio IC; High-Reliability: Y; DatasheetVersion: Feb-2008; PackageVersion: revA, Oct-2003; PackageReference: SQA24B; PackageDescription: LLP, Plastic, Quad, 5 x 4 x 0.8mm Body, 24 Lead, 0.5mm Pitch, No Pullback; RoHS: Y; PinCount: 24; Code_JEDEC: MO-220-WGHD-1; ComponentLink1Description: Manufacturer URL; ComponentLink1URL: http://www.national.com/; ComponentLink2Description: LM48511 Datasheet; ComponentLink2URL: http://www.national.com/ds/LM/LM48511.pdf; ComponentLink3Description: LM48511 Web Page; ComponentLink3URL: http://www.national.com/pf/LM/LM48511.html; ComponentLink4Description: SQA24B Package Page; ComponentLink4URL: http://www.national.com/packaging/folders/sqa24b.html
footprint SQA24B (QFN, 24-Leads, Body 5x4mm, Pitch 0.5mm, NSC Recommended)
pins: 1 FB_SEL (in), 2 SW (oc), 3 SW (oc), 4 SOFTSTART, 5 ~{SD}/AMP (in), 6 SS/~{FF} (in), 7 GND (power), 8 LS+ (out), 9 LSGND (power), 10 PV1 (power), 11 LSGND (power), 12 LS- (out), 13 V1 (power), 14 VGO+ (out), 15 IN- (in), 16 IN+ (in), 17 VGO- (out), 18 VDD (power), 19 FB (in), 20 FB_GND1 (power), 21 FB_GND0 (power), 22 REGGND (power), 23 REGGND (power), 24 ~{SD}_BOOST (in), 25 DAP (power)

## LM48520TL
designator U?
Boosted Stereo Class D Audio Power Amplifier with Output Speaker Protection and Spread Spectrum, 25-pin Micro SMD; PartNumber: LM48520TL; Manufacturer: National Semiconductor; PackageTopMarking: XYTT*I GI5; PowerWise: N; CompType: Audio IC; High-Reliability: Y; DatasheetVersion: Mar-2008; PackageVersion: revD, Dec-2003; PackageReference: TLA25AAA; PackageDescription: Thin Micro SMD, 25 Bump (Large), 0.5mm Pitch; RoHS: Y; PinCount: 25; Code_JEDEC: MO-211-DH; ComponentLink1Description: Manufacturer URL; ComponentLink1URL: http://www.national.com/; ComponentLink2Description: LM48520 Datasheet; ComponentLink2URL: http://www.national.com/ds/LM/LM48520.pdf; ComponentLink3Description: LM48520 Web Page; ComponentLink3URL: http://www.national.com/pf/LM/LM48520.html; ComponentLink4Description: TLA25AAA Package Page; ComponentLink4URL: http://www.national.com/packaging/folders/tla25aaa.html
footprint TLA25AAA (Micro SMD, 25-Leads, Body 2.49x2.49mm, Pitch 0.5mm, NSC Recommended)
pins: A1 VDD (power), A2 BSTFB (in), A3 SS, A4 SW_GND (power), A5 SW, B1 INR+ (in), B2 INR- (in), B3 FB-GND (power), B4 INL- (in), B5 INL+ (in), C1 V1 (power), C2 ~{BOOST SD} (in), C3 GND (power), C4 GAIN0 (in), C5 PV1 (power), D1 ~{AMP SD} (in), D2 OUTR+ (out), D3 NC, D4 OUTL+ (out), D5 GAIN1 (in), E1 VLIMIT (in), E2 OUTR- (out), E3 PGND (power), E4 OUTL- (out), E5 NC

## LM48520TL/NOPB
designator U?
Boosted Stereo Class D Audio Power Amplifier with Output Speaker Protection and Spread Spectrum, 25-pin Micro SMD, Pb-Free; PartNumber: LM48520TL/NOPB; Manufacturer: National Semiconductor; PackageTopMarking: XYTT*I GI5; PowerWise: N; CompType: Audio IC; High-Reliability: Y; DatasheetVersion: Mar-2008; PackageVersion: revD, Dec-2003; PackageReference: TLA25AAA; PackageDescription: Thin Micro SMD, 25 Bump (Large), 0.5mm Pitch; RoHS: Y; PinCount: 25; Code_JEDEC: MO-211-DH; ComponentLink1Description: Manufacturer URL; ComponentLink1URL: http://www.national.com/; ComponentLink2Description: LM48520 Datasheet; ComponentLink2URL: http://www.national.com/ds/LM/LM48520.pdf; ComponentLink3Description: LM48520 Web Page; ComponentLink3URL: http://www.national.com/pf/LM/LM48520.html; ComponentLink4Description: TLA25AAA Package Page; ComponentLink4URL: http://www.national.com/packaging/folders/tla25aaa.html
footprint TLA25AAA (Micro SMD, 25-Leads, Body 2.49x2.49mm, Pitch 0.5mm, NSC Recommended)
pins: A1 VDD (power), A2 BSTFB (in), A3 SS, A4 SW_GND (power), A5 SW, B1 INR+ (in), B2 INR- (in), B3 FB-GND (power), B4 INL- (in), B5 INL+ (in), C1 V1 (power), C2 ~{BOOST SD} (in), C3 GND (power), C4 GAIN0 (in), C5 PV1 (power), D1 ~{AMP SD} (in), D2 OUTR+ (out), D3 NC, D4 OUTL+ (out), D5 GAIN1 (in), E1 VLIMIT (in), E2 OUTR- (out), E3 PGND (power), E4 OUTL- (out), E5 NC

## LM48520TLX/NOPB
designator U?
Boosted Stereo Class D Audio Power Amplifier with Output Speaker Protection and Spread Spectrum, 25-pin Micro SMD, Pb-Free; PartNumber: LM48520TLX/NOPB; Manufacturer: National Semiconductor; PackageTopMarking: XYTT*I GI5; PowerWise: N; CompType: Audio IC; High-Reliability: Y; DatasheetVersion: Mar-2008; PackageVersion: revD, Dec-2003; PackageReference: TLA25AAA; PackageDescription: Thin Micro SMD, 25 Bump (Large), 0.5mm Pitch; RoHS: Y; PinCount: 25; Code_JEDEC: MO-211-DH; ComponentLink1Description: Manufacturer URL; ComponentLink1URL: http://www.national.com/; ComponentLink2Description: LM48520 Datasheet; ComponentLink2URL: http://www.national.com/ds/LM/LM48520.pdf; ComponentLink3Description: LM48520 Web Page; ComponentLink3URL: http://www.national.com/pf/LM/LM48520.html; ComponentLink4Description: TLA25AAA Package Page; ComponentLink4URL: http://www.national.com/packaging/folders/tla25aaa.html
footprint TLA25AAA (Micro SMD, 25-Leads, Body 2.49x2.49mm, Pitch 0.5mm, NSC Recommended)
pins: A1 VDD (power), A2 BSTFB (in), A3 SS, A4 SW_GND (power), A5 SW, B1 INR+ (in), B2 INR- (in), B3 FB-GND (power), B4 INL- (in), B5 INL+ (in), C1 V1 (power), C2 ~{BOOST SD} (in), C3 GND (power), C4 GAIN0 (in), C5 PV1 (power), D1 ~{AMP SD} (in), D2 OUTR+ (out), D3 NC, D4 OUTL+ (out), D5 GAIN1 (in), E1 VLIMIT (in), E2 OUTR- (out), E3 PGND (power), E4 OUTL- (out), E5 NC

## LM48555TL
designator U?
Ceramic Speaker Driver, 12-pin Micro SMD; PartNumber: LM48555TL; Manufacturer: National Semiconductor; PackageTopMarking: XVG*I I4; PowerWise: N; CompType: Audio IC; High-Reliability: Y; DatasheetVersion: Mar-2007; PackageVersion: revC, Jan-2004; PackageReference: TLA12Z1A; PackageDescription: Thin Micro SMD, 12 Bump (Large), Area Array, 0.5mm Pitch; RoHS: Y; PinCount: 12; Code_JEDEC: MO-211-DE; ComponentLink1Description: Manufacturer URL; ComponentLink1URL: http://www.national.com/; ComponentLink2Description: LM48555 Datasheet; ComponentLink2URL: http://www.national.com/ds/LM/LM48555.pdf; ComponentLink3Description: LM48555 Web Page; ComponentLink3URL: http://www.national.com/pf/LM/LM48555.html; ComponentLink4Description: TLA12Z1A Package Page; ComponentLink4URL: http://www.national.com/packaging/folders/tla12z1a.html
footprint TLA12Z1A (Micro SMD, 12-Leads, Body 1.97x1.47mm, Pitch 0.5mm, NSC Recommended)
pins: A1 OUT- (out), A2 VAMP (out), A3 OUT+ (out), B1 IN+ (in), B2 GND (power), B3 IN- (in), C1 BOOTSTRAP (in), C2 ~{SD} (in), C3 SS (in), D1 GND (SW) (power), D2 SW (oc), D3 VDD (power)

## LM48555TL/NOPB
designator U?
Ceramic Speaker Driver, 12-pin Micro SMD, Pb-Free; PartNumber: LM48555TL/NOPB; Manufacturer: National Semiconductor; PackageTopMarking: XVG*I I4; PowerWise: N; CompType: Audio IC; High-Reliability: Y; DatasheetVersion: Mar-2007; PackageVersion: revC, Jan-2004; PackageReference: TLA12Z1A; PackageDescription: Thin Micro SMD, 12 Bump (Large), Area Array, 0.5mm Pitch; RoHS: Y; PinCount: 12; Code_JEDEC: MO-211-DE; ComponentLink1Description: Manufacturer URL; ComponentLink1URL: http://www.national.com/; ComponentLink2Description: LM48555 Datasheet; ComponentLink2URL: http://www.national.com/ds/LM/LM48555.pdf; ComponentLink3Description: LM48555 Web Page; ComponentLink3URL: http://www.national.com/pf/LM/LM48555.html; ComponentLink4Description: TLA12Z1A Package Page; ComponentLink4URL: http://www.national.com/packaging/folders/tla12z1a.html
footprint TLA12Z1A (Micro SMD, 12-Leads, Body 1.97x1.47mm, Pitch 0.5mm, NSC Recommended)
pins: A1 OUT- (out), A2 VAMP (out), A3 OUT+ (out), B1 IN+ (in), B2 GND (power), B3 IN- (in), C1 BOOTSTRAP (in), C2 ~{SD} (in), C3 SS (in), D1 GND (SW) (power), D2 SW (oc), D3 VDD (power)

## LM48555TLX/NOPB
designator U?
Ceramic Speaker Driver, 12-pin Micro SMD, Pb-Free; PartNumber: LM48555TLX/NOPB; Manufacturer: National Semiconductor; PackageTopMarking: XVG*I I4; PowerWise: N; CompType: Audio IC; High-Reliability: Y; DatasheetVersion: Mar-2007; PackageVersion: revC, Jan-2004; PackageReference: TLA12Z1A; PackageDescription: Thin Micro SMD, 12 Bump (Large), Area Array, 0.5mm Pitch; RoHS: Y; PinCount: 12; Code_JEDEC: MO-211-DE; ComponentLink1Description: Manufacturer URL; ComponentLink1URL: http://www.national.com/; ComponentLink2Description: LM48555 Datasheet; ComponentLink2URL: http://www.national.com/ds/LM/LM48555.pdf; ComponentLink3Description: LM48555 Web Page; ComponentLink3URL: http://www.national.com/pf/LM/LM48555.html; ComponentLink4Description: TLA12Z1A Package Page; ComponentLink4URL: http://www.national.com/packaging/folders/tla12z1a.html
footprint TLA12Z1A (Micro SMD, 12-Leads, Body 1.97x1.47mm, Pitch 0.5mm, NSC Recommended)
pins: A1 OUT- (out), A2 VAMP (out), A3 OUT+ (out), B1 IN+ (in), B2 GND (power), B3 IN- (in), C1 BOOTSTRAP (in), C2 ~{SD} (in), C3 SS (in), D1 GND (SW) (power), D2 SW (oc), D3 VDD (power)

## LM48556TL/NOPB
designator U?
Fully Differential, Mono, Ceramic Speaker Driver, 12-pin Micro SMD, Pb-Free; PartNumber: LM48556TL/NOPB; Manufacturer: National Semiconductor; PackageTopMarking: XYTT*I GK4; PowerWise: N; CompType: Audio IC; High-Reliability: Y; DatasheetVersion: Dec-2008; PackageVersion: revC, Jan-2004; PackageReference: TLA121AA; PackageDescription: Thin Micro SMD, 12 Bump (Large), Area Array, 0.5mm Pitch; RoHS: Y; PinCount: 12; Code_JEDEC: MO-211-DE; ComponentLink1Description: Manufacturer URL; ComponentLink1URL: http://www.national.com/; ComponentLink2Description: LM48556 Datasheet; ComponentLink2URL: http://www.national.com/ds/LM/LM48556.pdf; ComponentLink3Description: LM48556 Web Page; ComponentLink3URL: http://www.national.com/pf/LM/LM48556.html; ComponentLink4Description: TLA121AA Package Page; ComponentLink4URL: http://www.national.com/packaging/folders/tla121aa.html
footprint TLA121AA (Micro SMD, 12-Leads, Body 2.0x1.49mm, Pitch 0.5mm, NSC Recommended)
pins: A1 OUT- (out), A2 SVDD (power), A3 IN+ (in), B1 SVSS (power), B2 OUT+ (out), B3 IN- (in), C1 CPVSS (power), C2 C1P, C3 ~{SD} (in), D1 C1N, D2 PGND (power), D3 PVDD (power)

## LM48556TLX/NOPB
designator U?
Fully Differential, Mono, Ceramic Speaker Driver, 12-pin Micro SMD, Pb-Free; PartNumber: LM48556TLX/NOPB; Manufacturer: National Semiconductor; PackageTopMarking: XYTT*I GK4; PowerWise: N; CompType: Audio IC; High-Reliability: Y; DatasheetVersion: Dec-2008; PackageVersion: revC, Jan-2004; PackageReference: TLA121AA; PackageDescription: Thin Micro SMD, 12 Bump (Large), Area Array, 0.5mm Pitch; RoHS: Y; PinCount: 12; Code_JEDEC: MO-211-DE; ComponentLink1Description: Manufacturer URL; ComponentLink1URL: http://www.national.com/; ComponentLink2Description: LM48556 Datasheet; ComponentLink2URL: http://www.national.com/ds/LM/LM48556.pdf; ComponentLink3Description: LM48556 Web Page; ComponentLink3URL: http://www.national.com/pf/LM/LM48556.html; ComponentLink4Description: TLA121AA Package Page; ComponentLink4URL: http://www.national.com/packaging/folders/tla121aa.html
footprint TLA121AA (Micro SMD, 12-Leads, Body 2.0x1.49mm, Pitch 0.5mm, NSC Recommended)
pins: A1 OUT- (out), A2 SVDD (power), A3 IN+ (in), B1 SVSS (power), B2 OUT+ (out), B3 IN- (in), C1 CPVSS (power), C2 C1P, C3 ~{SD} (in), D1 C1N, D2 PGND (power), D3 PVDD (power)

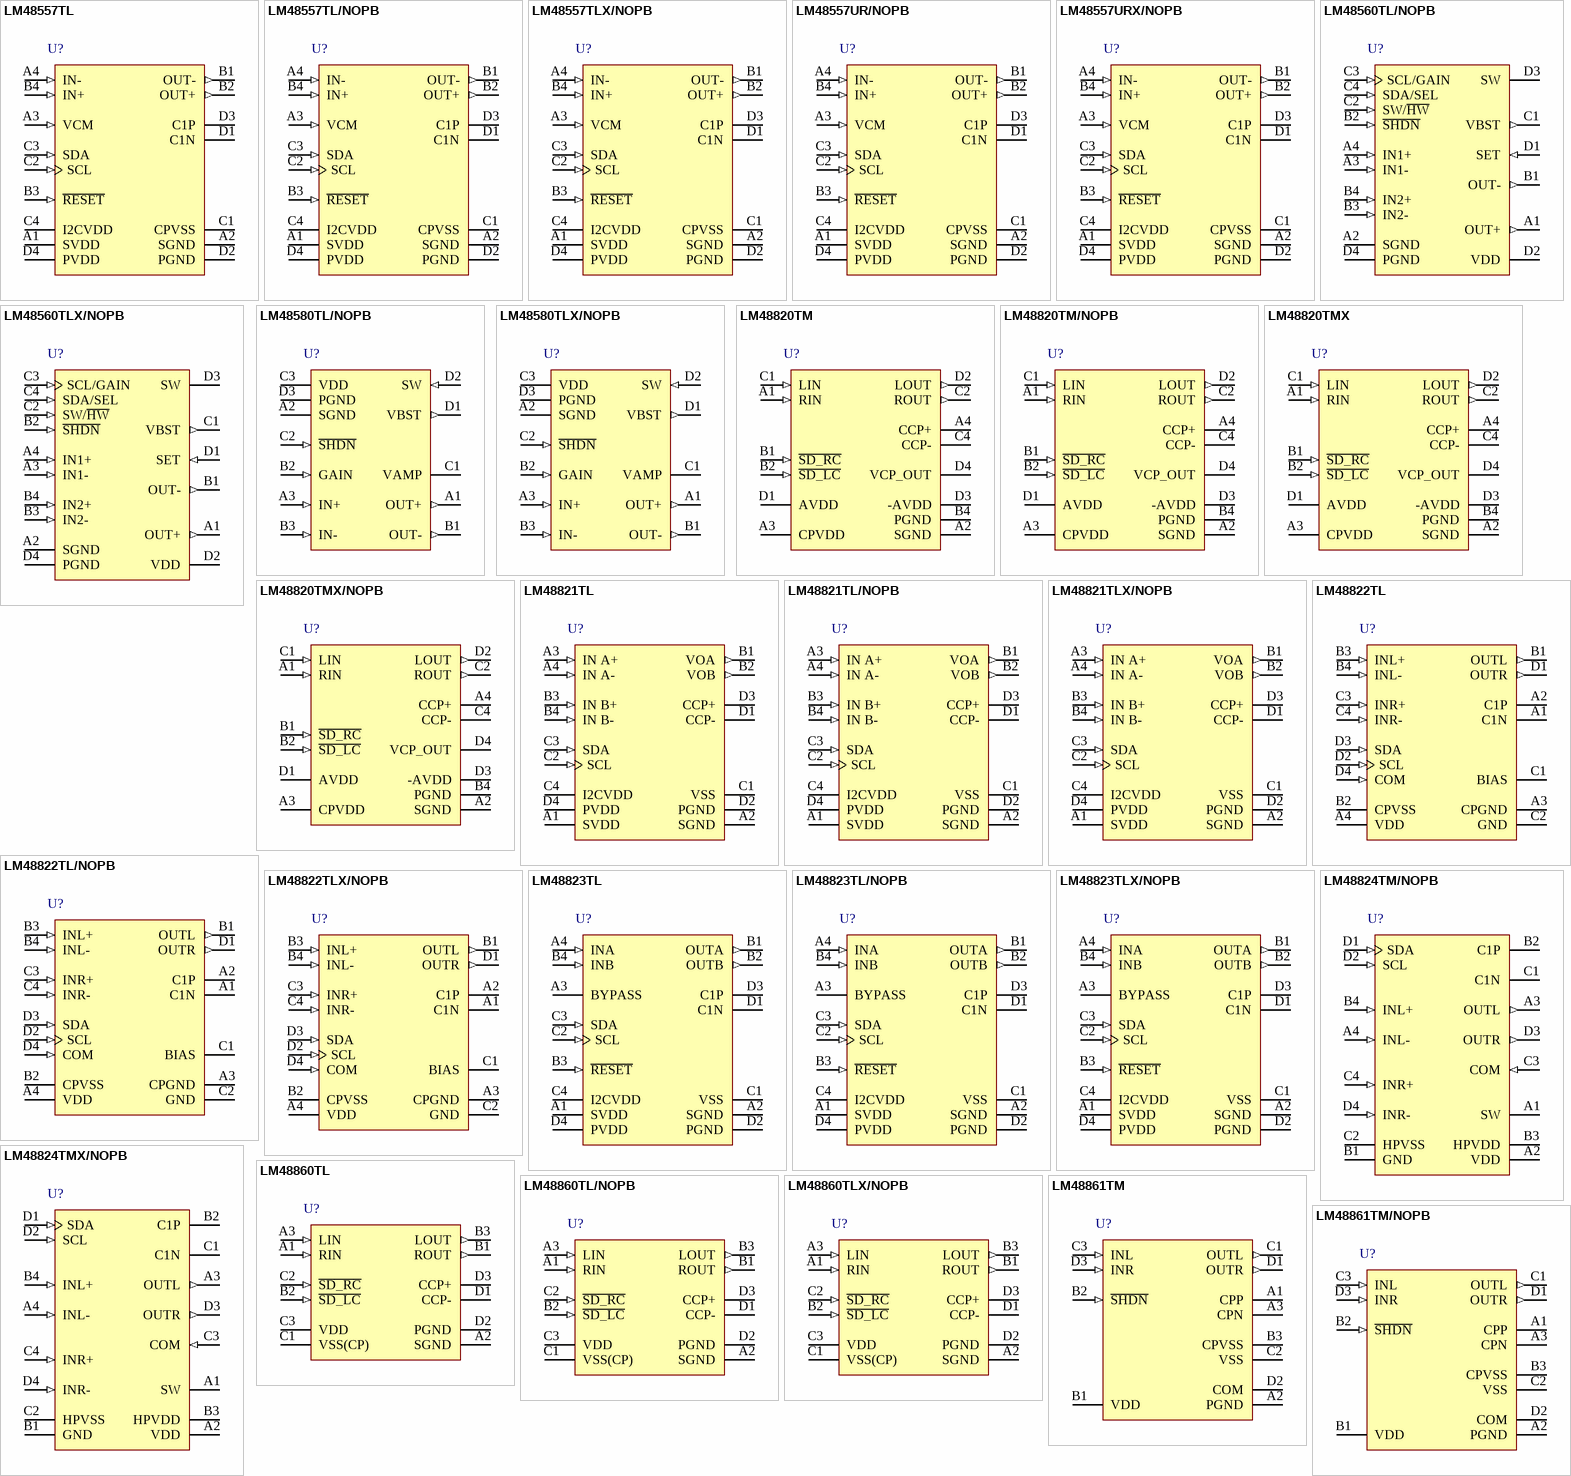
[diagram p19: symbols LM48557TL to LM48861TM/NOPB]

## LM48557TL
designator U?
Mono, Bridge-Tied Load, Ceramic Speaker Driver with I2C Volume Control and Reset, 16-pin Micro SMD; PartNumber: LM48557TL; Manufacturer: National Semiconductor; PackageTopMarking: XYTT*I GM2; PowerWise: N; CompType: Audio IC; High-Reliability: Y; DatasheetVersion: Aug-2009; PackageVersion: revC, Jan-2004; PackageReference: TLA1611A; PackageDescription: Thin Micro SMD, 16 Bump (Large), 0.5mm Pitch; RoHS: Y; PinCount: 16; Code_JEDEC: MO-211-DF; ComponentLink1Description: Manufacturer URL; ComponentLink1URL: http://www.national.com/; ComponentLink2Description: LM48557 Datasheet; ComponentLink2URL: http://www.national.com/ds/LM/LM48557.pdf; ComponentLink3Description: LM48557 Web Page; ComponentLink3URL: http://www.national.com/pf/LM/LM48557.html; ComponentLink4Description: TLA1611A Package Page; ComponentLink4URL: http://www.national.com/packaging/folders/tla1611a.html
footprint TLA1611A (Micro SMD, 16-Leads, Body 1.97x1.97mm, Pitch 0.5mm, NSC Recommended)
pins: A1 SVDD (power), A2 SGND (power), A3 VCM (in), A4 IN- (in), B1 OUT- (out), B2 OUT+ (out), B3 ~{RESET} (in), B4 IN+ (in), C1 CPVSS (power), C2 SCL (in), C3 SDA (in), C4 I2CVDD (power), D1 C1N, D2 PGND (power), D3 C1P, D4 PVDD (power)

## LM48557TL/NOPB
designator U?
Mono, Bridge-Tied Load, Ceramic Speaker Driver with I2C Volume Control and Reset, 16-pin Micro SMD, Pb-Free; PartNumber: LM48557TL/NOPB; Manufacturer: National Semiconductor; PackageTopMarking: XYTT*I GM2; PowerWise: N; CompType: Audio IC; High-Reliability: Y; DatasheetVersion: Aug-2009; PackageVersion: revC, Jan-2004; PackageReference: TLA1611A; PackageDescription: Thin Micro SMD, 16 Bump (Large), 0.5mm Pitch; RoHS: Y; PinCount: 16; Code_JEDEC: MO-211-DF; ComponentLink1Description: Manufacturer URL; ComponentLink1URL: http://www.national.com/; ComponentLink2Description: LM48557 Datasheet; ComponentLink2URL: http://www.national.com/ds/LM/LM48557.pdf; ComponentLink3Description: LM48557 Web Page; ComponentLink3URL: http://www.national.com/pf/LM/LM48557.html; ComponentLink4Description: TLA1611A Package Page; ComponentLink4URL: http://www.national.com/packaging/folders/tla1611a.html
footprint TLA1611A (Micro SMD, 16-Leads, Body 1.97x1.97mm, Pitch 0.5mm, NSC Recommended)
pins: A1 SVDD (power), A2 SGND (power), A3 VCM (in), A4 IN- (in), B1 OUT- (out), B2 OUT+ (out), B3 ~{RESET} (in), B4 IN+ (in), C1 CPVSS (power), C2 SCL (in), C3 SDA (in), C4 I2CVDD (power), D1 C1N, D2 PGND (power), D3 C1P, D4 PVDD (power)

## LM48557TLX/NOPB
designator U?
Mono, Bridge-Tied Load, Ceramic Speaker Driver with I2C Volume Control and Reset, 16-pin Micro SMD, Pb-Free; PartNumber: LM48557TLX/NOPB; Manufacturer: National Semiconductor; PackageTopMarking: XYTT*I GM2; PowerWise: N; CompType: Audio IC; High-Reliability: Y; DatasheetVersion: Aug-2009; PackageVersion: revC, Jan-2004; PackageReference: TLA1611A; PackageDescription: Thin Micro SMD, 16 Bump (Large), 0.5mm Pitch; RoHS: Y; PinCount: 16; Code_JEDEC: MO-211-DF; ComponentLink1Description: Manufacturer URL; ComponentLink1URL: http://www.national.com/; ComponentLink2Description: LM48557 Datasheet; ComponentLink2URL: http://www.national.com/ds/LM/LM48557.pdf; ComponentLink3Description: LM48557 Web Page; ComponentLink3URL: http://www.national.com/pf/LM/LM48557.html; ComponentLink4Description: TLA1611A Package Page; ComponentLink4URL: http://www.national.com/packaging/folders/tla1611a.html
footprint TLA1611A (Micro SMD, 16-Leads, Body 1.97x1.97mm, Pitch 0.5mm, NSC Recommended)
pins: A1 SVDD (power), A2 SGND (power), A3 VCM (in), A4 IN- (in), B1 OUT- (out), B2 OUT+ (out), B3 ~{RESET} (in), B4 IN+ (in), C1 CPVSS (power), C2 SCL (in), C3 SDA (in), C4 I2CVDD (power), D1 C1N, D2 PGND (power), D3 C1P, D4 PVDD (power)

## LM48557UR/NOPB
designator U?
Mono, Bridge-Tied Load, Ceramic Speaker Driver with I2C Volume Control and Reset, 16 pin MICRO SMD; PartNumber: LM48557UR/NOPB; Manufacturer: National Semiconductor; PackageTopMarking: XYTT*I GN5; PowerWise: N; CompType: Audio IC; High-Reliability: Y; DatasheetVersion: Aug-2009; PackageVersion: revC, Jan-2004; PackageReference: TLA1611A; PackageDescription: Thin Micro SMD, 16 Bump (Large), 0.5mm Pitch; RoHS: Y; PinCount: 16; Code_JEDEC: MO-211-DF; ComponentLink1Description: Manufacturer URL; ComponentLink1URL: http://www.national.com/; ComponentLink2Description: LM48557 Datasheet; ComponentLink2URL: http://www.national.com/ds/LM/LM48557.pdf; ComponentLink3Description: LM48557 Web Page; ComponentLink3URL: http://www.national.com/pf/LM/LM48557.html; ComponentLink4Description: URA1611A Package Page; ComponentLink4URL: http://www.national.com/packaging/folders/ura1611a.html
footprint TLA1611A (Micro SMD, 16-Leads, Body 1.97x1.97mm, Pitch 0.5mm, NSC Recommended)
pins: A1 SVDD (power), A2 SGND (power), A3 VCM (in), A4 IN- (in), B1 OUT- (out), B2 OUT+ (out), B3 ~{RESET} (in), B4 IN+ (in), C1 CPVSS (power), C2 SCL (in), C3 SDA (in), C4 I2CVDD (power), D1 C1N, D2 PGND (power), D3 C1P, D4 PVDD (power)

## LM48557URX/NOPB
designator U?
Mono, Bridge-Tied Load, Ceramic Speaker Driver with I2C Volume Control and Reset, 16 pin MICRO SMD; PartNumber: LM48557URX/NOPB; Manufacturer: National Semiconductor; PackageTopMarking: XYTT*I GN5; PowerWise: N; CompType: Audio IC; High-Reliability: Y; DatasheetVersion: Aug-2009; PackageVersion: revC, Jan-2004; PackageReference: TLA1611A; PackageDescription: Thin Micro SMD, 16 Bump (Large), 0.5mm Pitch; RoHS: Y; PinCount: 16; Code_JEDEC: MO-211-DF; ComponentLink1Description: Manufacturer URL; ComponentLink1URL: http://www.national.com/; ComponentLink2Description: LM48557 Datasheet; ComponentLink2URL: http://www.national.com/ds/LM/LM48557.pdf; ComponentLink3Description: LM48557 Web Page; ComponentLink3URL: http://www.national.com/pf/LM/LM48557.html; ComponentLink4Description: URA1611A Package Page; ComponentLink4URL: http://www.national.com/packaging/folders/ura1611a.html
footprint TLA1611A (Micro SMD, 16-Leads, Body 1.97x1.97mm, Pitch 0.5mm, NSC Recommended)
pins: A1 SVDD (power), A2 SGND (power), A3 VCM (in), A4 IN- (in), B1 OUT- (out), B2 OUT+ (out), B3 ~{RESET} (in), B4 IN+ (in), C1 CPVSS (power), C2 SCL (in), C3 SDA (in), C4 I2CVDD (power), D1 C1N, D2 PGND (power), D3 C1P, D4 PVDD (power)

## LM48560TL/NOPB
designator U?
High Voltage Class H Ceramic Speaker Driver with Automatic Level Control, 16-pin Micro SMD, 250 Reel; PartNumber: LM48560TL/NOPB; Manufacturer: National Semiconductor; PackageTopMarking: XYTT*I GO5; PowerWise: N; CompType: Audio IC; High-Reliability: Y; DatasheetVersion: Sep-2011; PackageVersion: revC, Jan-2004; PackageReference: TLA1611A; PackageDescription: Thin Micro SMD, 16 Bump (Large), 0.5mm Pitch; RoHS: Y; PinCount: 16; Code_JEDEC: MO-211-DF; ComponentLink1Description: Manufacturer URL; ComponentLink1URL: http://www.national.com/; ComponentLink2Description: LM48560 Datasheet; ComponentLink2URL: http://www.national.com/ds/LM/LM48560.pdf; ComponentLink3Description: LM48560 Web Page; ComponentLink3URL: http://www.national.com/pf/LM/LM48560.html; ComponentLink4Description: TLA1611A Package Page; ComponentLink4URL: http://www.national.com/packaging/folders/tla1611a.html
footprint TLA1611A (Micro SMD, 16-Leads, Body 1.97x1.97mm, Pitch 0.5mm, NSC Recommended)
pins: A1 OUT+ (out), A2 SGND (power), A3 IN1- (in), A4 IN1+ (in), B1 OUT- (out), B2 ~{SHDN} (in), B3 IN2- (in), B4 IN2+ (in), C1 VBST (out), C2 SW/~{HW} (in), C3 SCL/GAIN (in), C4 SDA/SEL (in), D1 SET (in), D2 VDD (power), D3 SW, D4 PGND (power)

## LM48560TLX/NOPB
designator U?
High Voltage Class H Ceramic Speaker Driver with Automatic Level Control, 16-pin Micro SMD, 3000 Reel; PartNumber: LM48560TLX/NOPB; Manufacturer: National Semiconductor; PackageTopMarking: XYTT*I GO5; PowerWise: N; CompType: Audio IC; High-Reliability: Y; DatasheetVersion: Sep-2011; PackageVersion: revC, Jan-2004; PackageReference: TLA1611A; PackageDescription: Thin Micro SMD, 16 Bump (Large), 0.5mm Pitch; RoHS: Y; PinCount: 16; Code_JEDEC: MO-211-DF; ComponentLink1Description: Manufacturer URL; ComponentLink1URL: http://www.national.com/; ComponentLink2Description: LM48560 Datasheet; ComponentLink2URL: http://www.national.com/ds/LM/LM48560.pdf; ComponentLink3Description: LM48560 Web Page; ComponentLink3URL: http://www.national.com/pf/LM/LM48560.html; ComponentLink4Description: TLA1611A Package Page; ComponentLink4URL: http://www.national.com/packaging/folders/tla1611a.html
footprint TLA1611A (Micro SMD, 16-Leads, Body 1.97x1.97mm, Pitch 0.5mm, NSC Recommended)
pins: A1 OUT+ (out), A2 SGND (power), A3 IN1- (in), A4 IN1+ (in), B1 OUT- (out), B2 ~{SHDN} (in), B3 IN2- (in), B4 IN2+ (in), C1 VBST (out), C2 SW/~{HW} (in), C3 SCL/GAIN (in), C4 SDA/SEL (in), D1 SET (in), D2 VDD (power), D3 SW, D4 PGND (power)

## LM48580TL/NOPB
designator U?
High Efficiency Class H, High Voltage, Haptic Piezo Actuator / Ceramic Speaker Driver, 12 pin Micro SMD, Pb-Free; PartNumber: LM48580TL/NOPB; Manufacturer: National Semiconductor; PackageTopMarking: XYTT*I GM3; PowerWise: Y; CompType: Audio IC; DatasheetVersion: Feb-2010; PackageVersion: revC, Jan-2004; PackageReference: TLA12Z1A; PackageDescription: Thin Micro SMD, 12 Bump (Large), Area Array, 0.5mm Pitch; RoHS: Y; PinCount: 12; High-Reliability: Y; Code_JEDEC: MO-211-DE; ComponentLink1Description: Manufacturer URL; ComponentLink1URL: http://www.national.com/; ComponentLink2Description: LM48580 Datasheet; ComponentLink2URL: http://www.national.com/ds/LM/LM48580.pdf; ComponentLink3Description: LM48580 Web Page; ComponentLink3URL: http://www.national.com/pf/LM/LM48580.html; ComponentLink4Description: TLA12Z1A Package Page; ComponentLink4URL: http://www.national.com/packaging/folders/tla12z1a.html
footprint TLA12Z1A (Micro SMD, 12-Leads, Body 1.97x1.47mm, Pitch 0.5mm, NSC Recommended)
pins: A1 OUT+ (out), A2 SGND (power), A3 IN+ (in), B1 OUT- (out), B2 GAIN (in), B3 IN- (in), C1 VAMP (power), C2 ~{SHDN} (in), C3 VDD (power), D1 VBST (out), D2 SW (in), D3 PGND (power)

## LM48580TLX/NOPB
designator U?
High Efficiency Class H, High Voltage, Haptic Piezo Actuator / Ceramic Speaker Driver, 12 pin Micro SMD, Pb-Free; PartNumber: LM48580TLX/NOPB; Manufacturer: National Semiconductor; PackageTopMarking: XYTT*I GM3; PowerWise: Y; CompType: Audio IC; DatasheetVersion: Feb-2010; PackageVersion: revC, Jan-2004; PackageReference: TLA12Z1A; PackageDescription: Thin Micro SMD, 12 Bump (Large), Area Array, 0.5mm Pitch; RoHS: Y; PinCount: 12; High-Reliability: Y; Code_JEDEC: MO-211-DE; ComponentLink1Description: Manufacturer URL; ComponentLink1URL: http://www.national.com/; ComponentLink2Description: LM48580 Datasheet; ComponentLink2URL: http://www.national.com/ds/LM/LM48580.pdf; ComponentLink3Description: LM48580 Web Page; ComponentLink3URL: http://www.national.com/pf/LM/LM48580.html; ComponentLink4Description: TLA12Z1A Package Page; ComponentLink4URL: http://www.national.com/packaging/folders/tla12z1a.html
footprint TLA12Z1A (Micro SMD, 12-Leads, Body 1.97x1.47mm, Pitch 0.5mm, NSC Recommended)
pins: A1 OUT+ (out), A2 SGND (power), A3 IN+ (in), B1 OUT- (out), B2 GAIN (in), B3 IN- (in), C1 VAMP (power), C2 ~{SHDN} (in), C3 VDD (power), D1 VBST (out), D2 SW (in), D3 PGND (power)

## LM48820TM
designator U?
Ground-Referenced, Ultra Low Noise, Fixed Gain, 95mW Stereo Headphone Amplifier, 14-pin Micro SMD; PartNumber: LM48820TM; Manufacturer: National Semiconductor; PackageTopMarking: XYTT*I GI7; PowerWise: N; CompType: Audio IC; High-Reliability: Y; DatasheetVersion: Jun-2007; PackageVersion: revA, 2007; PackageReference: TME14AAA; PackageDescription: Thin Micro SMD, Depopulated, 14 Bump, 0.4mm Pitch; RoHS: N; PinCount: 14; ComponentLink1Description: Manufacturer URL; ComponentLink1URL: http://www.national.com/; ComponentLink2Description: LM48820 Datasheet; ComponentLink2URL: http://www.national.com/ds/LM/LM48820.pdf; ComponentLink3Description: LM48820 Web Page; ComponentLink3URL: http://www.national.com/pf/LM/LM48820.html; ComponentLink4Description: TME14AAA Package Page; ComponentLink4URL: http://www.national.com/packaging/folders/tme14aaa.html
footprint TME14AAA (Micro SMD, 14-Leads, Body 1.62x1.62mm, Pitch 0.4mm, NSC Recommended)
pins: A1 RIN (in), A2 SGND (power), A3 CPVDD (power), A4 CCP+, B1 ~{SD_RC} (in), B2 ~{SD_LC} (in), B4 PGND (power), C1 LIN (in), C2 ROUT (out), C4 CCP-, D1 AVDD (power), D2 LOUT (out), D3 -AVDD (power), D4 VCP_OUT (power)

## LM48820TM/NOPB
designator U?
Ground-Referenced, Ultra Low Noise, Fixed Gain, 95mW Stereo Headphone Amplifier, 14-pin Micro SMD, Pb-Free; PartNumber: LM48820TM/NOPB; Manufacturer: National Semiconductor; PackageTopMarking: XYTT*I GI7; PowerWise: N; CompType: Audio IC; High-Reliability: Y; DatasheetVersion: Jun-2007; PackageVersion: revA, 2007; PackageReference: TME14AAA; PackageDescription: Thin Micro SMD, Depopulated, 14 Bump, 0.4mm Pitch; RoHS: Y; PinCount: 14; ComponentLink1Description: Manufacturer URL; ComponentLink1URL: http://www.national.com/; ComponentLink2Description: LM48820 Datasheet; ComponentLink2URL: http://www.national.com/ds/LM/LM48820.pdf; ComponentLink3Description: LM48820 Web Page; ComponentLink3URL: http://www.national.com/pf/LM/LM48820.html; ComponentLink4Description: TME14AAA Package Page; ComponentLink4URL: http://www.national.com/packaging/folders/tme14aaa.html
footprint TME14AAA (Micro SMD, 14-Leads, Body 1.62x1.62mm, Pitch 0.4mm, NSC Recommended)
pins: A1 RIN (in), A2 SGND (power), A3 CPVDD (power), A4 CCP+, B1 ~{SD_RC} (in), B2 ~{SD_LC} (in), B4 PGND (power), C1 LIN (in), C2 ROUT (out), C4 CCP-, D1 AVDD (power), D2 LOUT (out), D3 -AVDD (power), D4 VCP_OUT (power)

## LM48820TMX
designator U?
Ground-Referenced, Ultra Low Noise, Fixed Gain, 95mW Stereo Headphone Amplifier, 14-pin Micro SMD; PartNumber: LM48820TMX; Manufacturer: National Semiconductor; PackageTopMarking: XYTT*I GI7; PowerWise: N; CompType: Audio IC; High-Reliability: Y; DatasheetVersion: Jun-2007; PackageVersion: revA, 2007; PackageReference: TME14AAA; PackageDescription: Thin Micro SMD, Depopulated, 14 Bump, 0.4mm Pitch; RoHS: N; PinCount: 14; ComponentLink1Description: Manufacturer URL; ComponentLink1URL: http://www.national.com/; ComponentLink2Description: LM48820 Datasheet; ComponentLink2URL: http://www.national.com/ds/LM/LM48820.pdf; ComponentLink3Description: LM48820 Web Page; ComponentLink3URL: http://www.national.com/pf/LM/LM48820.html; ComponentLink4Description: TME14AAA Package Page; ComponentLink4URL: http://www.national.com/packaging/folders/tme14aaa.html
footprint TME14AAA (Micro SMD, 14-Leads, Body 1.62x1.62mm, Pitch 0.4mm, NSC Recommended)
pins: A1 RIN (in), A2 SGND (power), A3 CPVDD (power), A4 CCP+, B1 ~{SD_RC} (in), B2 ~{SD_LC} (in), B4 PGND (power), C1 LIN (in), C2 ROUT (out), C4 CCP-, D1 AVDD (power), D2 LOUT (out), D3 -AVDD (power), D4 VCP_OUT (power)